# EAGLE library part 62201021821 (library Board-to-Board (rev18a))
WR-PHD 1.27mm Dual Socket Header, 10 Pins=>Code : Con_BTB_SHD_1.27_2_62201021821 <http://katalog.we-online.de/media/thumbs2/eican/thb_Con_BTB_SHD_1.27_2_6220xx21821_pf2.jpg> Details see: http://katalog.we-online.de/en/em/PHD_1_27_DUAL_SOCKET_HEADER_6220XX21821 Created 2014-06-04, Karrer Zheng 2014 (C) Würth Elektronik
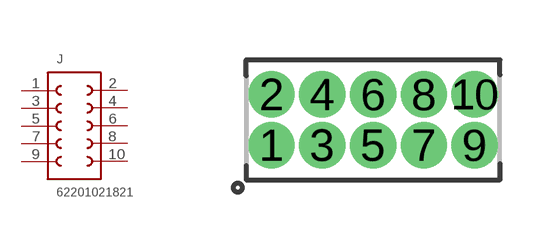
[diagram p289: symbol with the pads of 62201021821; footprint 62201021821]

Designator prefix J

## 62201021821  [62201021821]
1  1  pas
2  10  pas
3  2  pas
4  9  pas
5  3  pas
6  8  pas
7  4  pas
8  7  pas
9  5  pas
10  6  pas

## Footprint 62201021821 (pad centres in mm)
WR-PHD 1.27mm Dual Socket Header, 10 Pins
drill 0.65: 1 -2.54,-0.635; 2 -2.54,0.635; 3 -1.27,-0.635; 4 -1.27,0.635; 5 0,-0.635; 6 0,0.635; 7 1.27,-0.635; 8 1.27,0.635; 9 2.54,-0.635; 10 2.54,0.635